# EAGLE library part MKL02Z32VFG4 (library MKL02Z32VFG4)
MCU 32-Bit KL02 ARM Cortex M0+ RISC 32KB Flash 1.8V/2.5V/3.3V 16-Pin QFN EP Tray
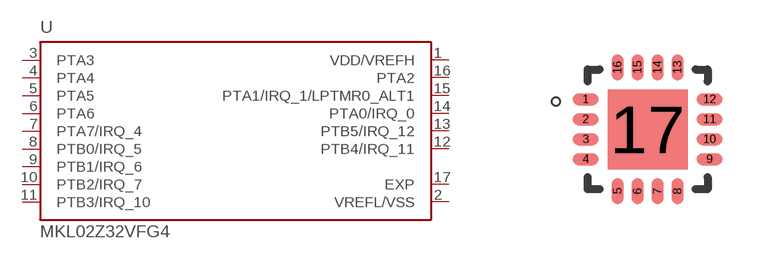
[diagram p0: symbol with the pads of QFN50P300X300X65-17N; footprint QFN50P300X300X65-17N]

Designator prefix U

## MKL02Z32VFG4 (Description: ARM® Cortex®-M0+ series Microcontroller IC 32-Bit Single-Core 48MHz 32KB (32K x 8) FLASH 16-QFN (3x3); Digi-Key_Part_Number: MKL02Z32VFG4-ND; MF: NXP USA; MP: MKL02Z32VFG4; Package: QFN-16 Freescale Semiconductor; Purchase-URL: https://pricing.snapeda.com/search/part/MKL02Z32VFG4/?ref=eda)  [QFN50P300X300X65-17N]
1  VDD/VREFH  pwr
2  VREFL/VSS  pwr
3  PTA3
4  PTA4
5  PTA5
6  PTA6
7  PTA7/IRQ_4
8  PTB0/IRQ_5
9  PTB1/IRQ_6
10  PTB2/IRQ_7
11  PTB3/IRQ_10
12  PTB4/IRQ_11
13  PTB5/IRQ_12
14  PTA0/IRQ_0
15  PTA1/IRQ_1/LPTMR0_ALT1
16  PTA2
17  EXP  pwr

## Footprint QFN50P300X300X65-17N (pad centres in mm)
smd 0.65 x 0.3: 1 -1.55,0.75; 2 -1.55,0.25; 3 -1.55,-0.25; 4 -1.55,-0.75; 9 1.55,-0.75; 10 1.55,-0.25; 11 1.55,0.25; 12 1.55,0.75
smd 0.3 x 0.65: 5 -0.75,-1.55; 6 -0.25,-1.55; 7 0.25,-1.55; 8 0.75,-1.55; 13 0.75,1.55; 14 0.25,1.55; 15 -0.25,1.55; 16 -0.75,1.55
smd 2 x 2: 17 0,0